# EAGLE library part LS7184 (library NASA_LIB)
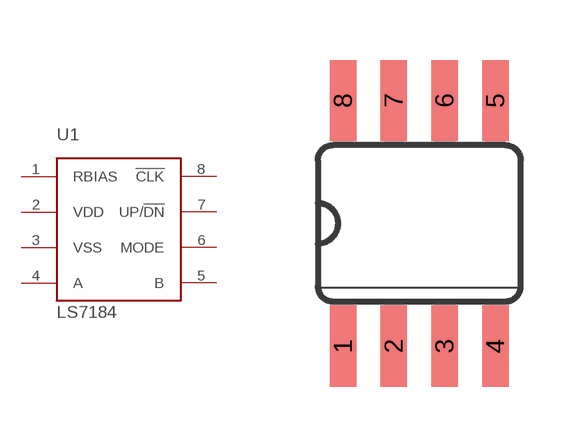
[diagram p42: symbol with the pads of SO08; footprint SO08]

Designator prefix U1

## LS7184  [SO08]
1  RBIAS
2  VDD
3  VSS
4  A
5  B
6  MODE
7  UP/!DN
8  !CLK

## Footprint SO08 (pad centres in mm)
smd 0.66 x 2.032: 1 -1.905,-3.073; 2 -0.635,-3.073; 3 0.635,-3.073; 4 1.905,-3.073; 5 1.905,3.073; 6 0.635,3.073; 7 -0.635,3.073; 8 -1.905,3.073